# Altium footprint library beacon_pcb.PcbLib: 7 footprints
Each footprint in its own frame and in the unit in brackets; x right, y up, seen from the top. Pads: shape width x height; smd on the part's side, far side on the other; paste and mask are expansions set on the pad; w line width, h text height; cw(c..) or ccw(c..) is an arc to the next point about the centre after c.
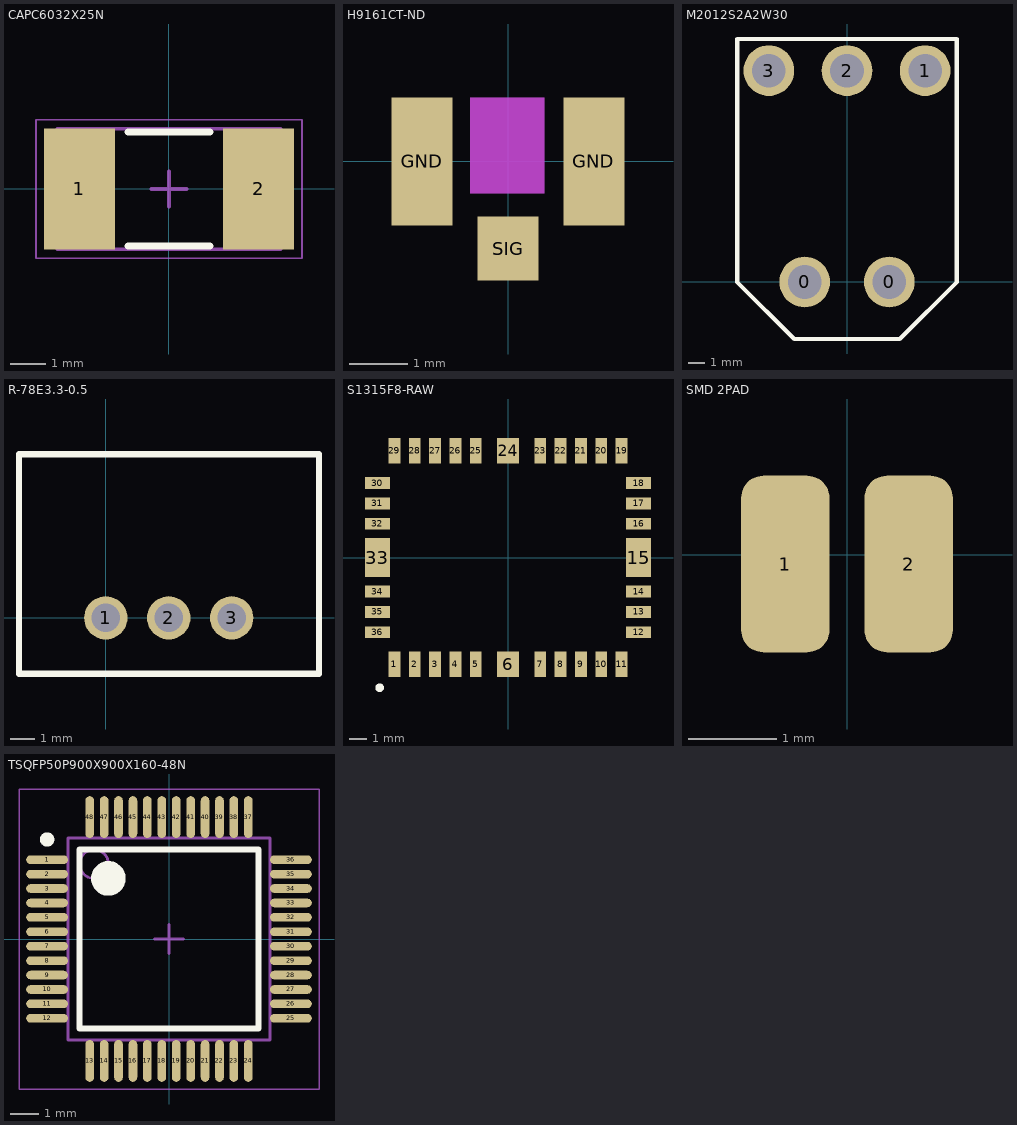
[diagram p0: the footprints below, top view; thin cyan lines are the x and y axes]

## CAPC6032X25N [mm] "Chip Capacitor, 2-Leads, Body 6.00x3.20mm, IPC Medium Density"
height 2.5
pads (2):
  rect 2x3.4 smd: 1(-2.525,0) 2(2.525,0)
Top Overlay:
  lines w0.2: -1.15,-1.6 1.15,-1.6 ; -1.15,1.6 1.15,1.6
Mechanical 13:
  lines w0.1: -3.15,-1.7 3.15,-1.7 3.15,1.7 -3.15,1.7 -3.15,-1.7
Mechanical 15:
  lines w0.05: -3.75,-1.95 3.75,-1.95 3.75,1.95 -3.75,1.95 -3.75,-1.95
  lines w0.1: -0.5,0 0.5,0 ; 0,-0.5 0,0.5
3D body: height 2.5, standoff 0, extent 1.85,-1.7 3.15,1.7
3D body: height 2.5, standoff 0, extent -3.15,-1.7 -1.85,1.7
3D body: height 2.5, standoff 0, extent -1.85,-1.7 1.85,1.7

## H9161CT-ND [mm]
height 1.25
pads (3):
  rect 1.05x2.2 smd: GND(-1.475,0) GND(1.475,0)
  rect 1.05x1.1 smd: SIG(0,-1.5)
Mechanical 1 keep-out:
  rectangle: -0.65,-0.55 0.625,1.1

## M2012S2A2W30 [mil]
pads (5):
  round 120 hole 80: 0(-100,0) 0(100,0) 1(185,500) 2(0,500) 3(-185,500)
Top Overlay:
  lines w10: -260,0 -125,-135 125,-135 260,0 260,575 -260,575 -260,0

## R-78E3.3-0.5 [mm]
height 10.4
pads (3):
  round 1.75 hole 1.15: 1(0,0) 2(2.54,0) 3(5.08,0)
Top Overlay:
  lines w0.254: -3.5,-2.25 -3.5,6.6 8.6,6.6 8.6,-2.25 -3.5,-2.25

## S1315F8-RAW [mm]
pads (36):
  rect 0.7x1.5 smd: 1(-6.7,-6.3) 2(-5.5,-6.3) 3(-4.3,-6.3) 4(-3.1,-6.3) 5(-1.9,-6.3) 7(1.9,-6.3) 8(3.1,-6.3) 9(4.3,-6.3) 10(5.5,-6.3) 11(6.7,-6.3) 19(6.7,6.3) 20(5.5,6.3) 21(4.3,6.3) 22(3.1,6.3) 23(1.9,6.3) 25(-1.9,6.3) 26(-3.1,6.3) 27(-4.3,6.3) 28(-5.5,6.3) 29(-6.7,6.3)
  rect 1.3x1.5 smd: 6(0,-6.3) 24(0,6.3)
  rect 1.5x0.7 smd: 12(7.7,-4.4) 13(7.7,-3.2) 14(7.7,-2) 16(7.7,2) 17(7.7,3.2) 18(7.7,4.4) 30(-7.7,4.4) 31(-7.7,3.2) 32(-7.7,2) 34(-7.7,-2) 35(-7.7,-3.2) 36(-7.7,-4.4)
  rect 1.5x2.3 smd: 15(7.7,0) 33(-7.7,0)
Top Overlay:
  circle w0.254: c-7.575,-7.675 r0.127

## SMD 2PAD [mm]
pads (2):
  rrect50% 1x2 smd: 1(-0.702,-0.105) 2(0.695,-0.105)

## TSQFP50P900X900X160-48N [mm] "TSQFP, 48-Leads, Body 7.00x7.00mm, Pitch 0.50mm, IPC Medium Density"
height 1.6
pads (48):
  oval 1.45x0.3 smd: 1(-4.225,2.75) 2(-4.225,2.25) 3(-4.225,1.75) 4(-4.225,1.25) 5(-4.225,0.75) 6(-4.225,0.25) 7(-4.225,-0.25) 8(-4.225,-0.75) 9(-4.225,-1.25) 10(-4.225,-1.75) 11(-4.225,-2.25) 12(-4.225,-2.75) 25(4.225,-2.75) 26(4.225,-2.25) 27(4.225,-1.75) 28(4.225,-1.25) 29(4.225,-0.75) 30(4.225,-0.25) 31(4.225,0.25) 32(4.225,0.75) 33(4.225,1.25) 34(4.225,1.75) 35(4.225,2.25) 36(4.225,2.75)
  oval 0.3x1.45 smd: 13(-2.75,-4.225) 14(-2.25,-4.225) 15(-1.75,-4.225) 16(-1.25,-4.225) 17(-0.75,-4.225) 18(-0.25,-4.225) 19(0.25,-4.225) 20(0.75,-4.225) 21(1.25,-4.225) 22(1.75,-4.225) 23(2.25,-4.225) 24(2.75,-4.225) 37(2.75,4.225) 38(2.25,4.225) 39(1.75,4.225) 40(1.25,4.225) 41(0.75,4.225) 42(0.25,4.225) 43(-0.25,4.225) 44(-0.75,4.225) 45(-1.25,4.225) 46(-1.75,4.225) 47(-2.25,4.225) 48(-2.75,4.225)
Top Overlay:
  circle w0.6: c-2.1,2.1 r0.3
  circle w0.25: c-4.225,3.45 r0.125
  lines w0.2: -3.1,-3.1 3.1,-3.1 3.1,3.1 -3.1,3.1 -3.1,-3.1
Mechanical 13:
  circle w0.1: c-2.6,2.6 r0.5
  lines w0.1: -3.5,-3.5 3.5,-3.5 3.5,3.5 -3.5,3.5 -3.5,-3.5
Mechanical 15:
  lines w0.05: -5.2,-5.2 5.2,-5.2 5.2,5.2 -5.2,5.2 -5.2,-5.2
  lines w0.1: -0.5,0 0.5,0 ; 0,-0.5 0,0.5
3D body: height 1.6, standoff 0.05, extent -3.5,-3.5 3.5,3.5